# Altium footprint library 2-5174339-5.PcbLib: 1 footprints
Each footprint in its own frame and in the unit in brackets; x right, y up, seen from the top. Pads: shape width x height; smd on the part's side, far side on the other; paste and mask are expansions set on the pad; w line width, h text height; cw(c..) or ccw(c..) is an arc to the next point about the centre after c.
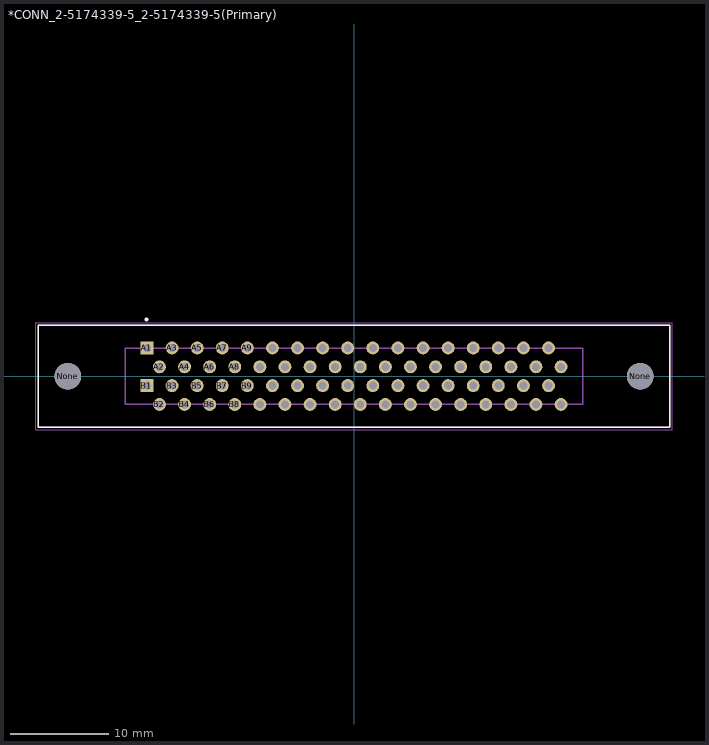
[diagram p0: the footprint, top view; thin cyan lines are the x and y axes]

## *CONN_2-5174339-5_2-5174339-5(Primary) [mm]
pads (70):
  rect 1.308x1.308 hole 0.8: A1(-20.955,2.857) B1(-20.955,-0.953)
  round 1.308 hole 0.8: A2(-19.685,0.953) A3(-18.415,2.857) A4(-17.145,0.953) A5(-15.875,2.857) A6(-14.605,0.953) A7(-13.335,2.857) A8(-12.065,0.953) A9(-10.795,2.857) A10(-9.525,0.953) A11(-8.255,2.857) A12(-6.985,0.953) A13(-5.715,2.857) A14(-4.445,0.953) A15(-3.175,2.857) A16(-1.905,0.953) A17(-0.635,2.857) A18(0.635,0.953) A19(1.905,2.857) A20(3.175,0.953) A21(4.445,2.857) A22(5.715,0.953) A23(6.985,2.857) A24(8.255,0.953) A25(9.525,2.857) A26(10.795,0.953) A27(12.065,2.857) A28(13.335,0.953) A29(14.605,2.857) A30(15.875,0.953) A31(17.145,2.857) A32(18.415,0.953) A33(19.685,2.857) A34(20.955,0.953) B2(-19.685,-2.857) B3(-18.415,-0.953) B4(-17.145,-2.857) B5(-15.875,-0.953) B6(-14.605,-2.857) B7(-13.335,-0.953) B8(-12.065,-2.857) B9(-10.795,-0.953) B10(-9.525,-2.857) B11(-8.255,-0.953) B12(-6.985,-2.857) B13(-5.715,-0.953) B14(-4.445,-2.857) B15(-3.175,-0.953) B16(-1.905,-2.857) B17(-0.635,-0.953) B18(0.635,-2.857) B19(1.905,-0.953) B20(3.175,-2.857) B21(4.445,-0.953) B22(5.715,-2.857) B23(6.985,-0.953) B24(8.255,-2.857) B25(9.525,-0.953) B26(10.795,-2.857) B27(12.065,-0.953) B28(13.335,-2.857) B29(14.605,-0.953) B30(15.875,-2.857) B31(17.145,-0.953) B32(18.415,-2.857) B33(19.685,-0.953) B34(20.955,-2.857)
  round 2.7 hole 2.7 unplated: None(-28.955,0) None(28.955,0)
Top Overlay:
  circle w0.2: c-21,5.75 r0.1
  lines w0.152: -31.95,-5.15 -31.95,5.15 31.95,5.15 31.95,-5.15 -31.95,-5.15
Mechanical 13:
  lines w0.152: -31.95,-5.15 -31.95,5.15 ; -31.95,-5.15 31.95,-5.15 ; -31.95,-5.15 -31.95,5.15 ; -31.95,-5.15 31.95,-5.15 ; -31.95,5.15 31.95,5.15 ; -31.95,5.15 31.95,5.15 ; -23.14,-2.85 23.14,-2.85 ; -23.14,-2.85 -23.14,2.85 ; -23.14,-2.85 23.14,-2.85 ; -23.14,-2.85 -23.14,2.85 ; -23.14,2.85 23.14,2.85 ; -23.14,2.85 23.14,2.85 ; 23.14,-2.85 23.14,2.85 ; 23.14,-2.85 23.14,2.85 ; 31.95,-5.15 31.95,5.15 ; 31.95,-5.15 31.95,5.15
Mechanical 15:
  lines w0.05: -32.2,-5.4 -32.2,5.4 32.2,5.4 32.2,-5.4 -32.2,-5.4